# EAGLE library part AS5311 (library austriamicrosystems)
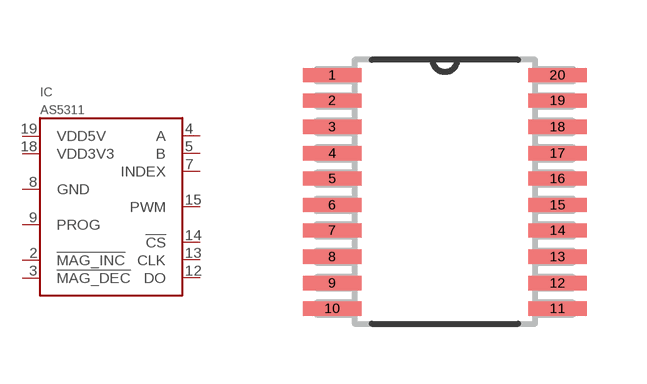
[diagram p1: symbol with the pads of SOP65P640X120-20N; footprint SOP65P640X120-20N]

Designator prefix IC

## AS5311  [SOP65P640X120-20N]
2  !MAG_INC  oc
3  !MAG_DEC  oc
4  A  out
5  B  out
7  INDEX  out
8  GND  pwr
9  PROG  in
12  DO  out
13  CLK  in
14  !CS  in
15  PWM  out
18  VDD3V3  pwr
19  VDD5V  pwr

## Footprint SOP65P640X120-20N (pad centres in mm)
smd 1.473 x 0.356: 1 -2.819,2.921; 2 -2.819,2.286; 3 -2.819,1.626; 4 -2.819,0.965; 5 -2.819,0.33; 6 -2.819,-0.33; 7 -2.819,-0.965; 8 -2.819,-1.626; 9 -2.819,-2.286; 10 -2.819,-2.921; 11 2.819,-2.921; 12 2.819,-2.286; 13 2.819,-1.626; 14 2.819,-0.965; 15 2.819,-0.33; 16 2.819,0.33; 17 2.819,0.965; 18 2.819,1.626; 19 2.819,2.286; 20 2.819,2.921